# EAGLE library part MCP6002 (library uClouds_SE_Library)
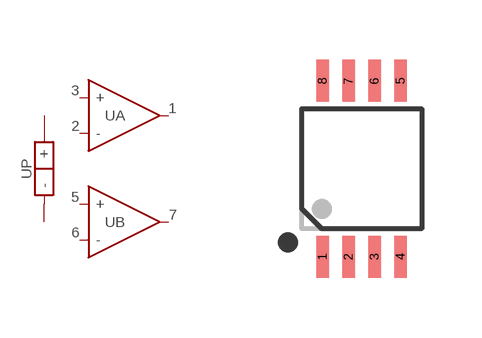
[diagram p2: symbol with the pads of MSOP-8; footprint MSOP-8]

Designator prefix U; gates A=OPAMP B=OPAMP P=POWER

## MCP6002-MSOP-8  [MSOP-8]
1  A:OUT  out
2  A:-  in
3  A:+  in
4  P:-
5  B:+  in
6  B:-  in
7  B:OUT  out
8  P:+

## Footprint MSOP-8 (pad centres in mm)
smd 0.32 x 1.05: 1 -0.975,-2.2; 2 -0.325,-2.2; 3 0.325,-2.2; 4 0.975,-2.2; 5 0.975,2.2; 6 0.325,2.2; 7 -0.325,2.2; 8 -0.975,2.2